# Altium schematic symbol library WL-SBCW.SchLib: 5 symbols
Pins are listed as number, name and electrical type; pins without a type are passive.

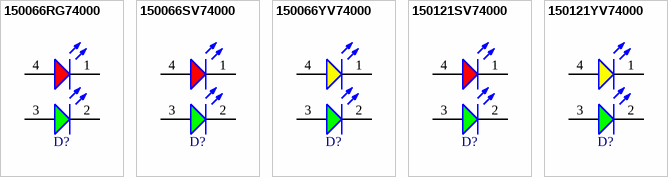
[diagram p0: symbols 150066RG74000 to 150121YV74000]

## 150066RG74000
designator D?, comment Red & Green, 130°  (value not drawn)
WL-SBCW SMT Bi-color Chip LED Waterclear, size 0606, Red & Green, 130°; Manufacturer Part Number: 150066RG74000; Manufacturer: Wurth Elektronik; Case/Size Code: 0606; Chip Technology: AlInGaP + InGaN; Dominant Wavelength (Green): 520nm; Dominant Wavelength (Red): 625nm; Forward Voltage (Green): 3.2V; Forward Voltage (Red): 2V; Luminous Intensity (Green): 560mcd; Luminous Intensity (Red): 300mcd; Peak Wavelength (Green): 515nm; Peak Wavelength (Red): 630nm; Category: Signal LEDs; Match Code: WL-SBCW; ComponentLink1Description: Website Link; ComponentLink1URL: https://www.we-online.com/redexpert/article/150066RG74000?ad; ComponentLink2Description: Datasheet Link; ComponentLink2URL: https://www.we-online.com/redexpert/spec/150066RG74000?ad; Mount: Surface Mount; Operating Temperature Max: 85°C; Operating Temperature Min: -40°C; Packaging: Tape and Reel; Length: 1.6mm; Width: 1.6mm; Height: 0.7mm; Emitting Color: Red & Green; Viewing Angle: 130°
footprint WL-SBCW_0606
simulation model 0606_150066RG74000
pins: 1 K, 2 K, 3 A, 4 A

## 150066SV74000
designator D?, comment Super Red & Bright Green, 130°  (value not drawn)
WL-SBCW SMT Bi-color Chip LED Waterclear, size 0606, Super Red & Bright Green, 130°; Manufacturer Part Number: 150066SV74000; Manufacturer: Wurth Elektronik; Case/Size Code: 0606; Chip Technology: AlInGaP; Dominant Wavelength (Bright Green): 570nm; Dominant Wavelength (Super Red): 630nm; Forward Voltage (Bright Green): 2V; Luminous Intensity (Bright Green): 30mcd; Luminous Intensity (Super Red): 55mcd; Peak Wavelength (Bright Green): 572nm; Peak Wavelength (Super Red): 645nm; Category: Signal LEDs; Match Code: WL-SBCW; ComponentLink1Description: Website Link; ComponentLink1URL: https://www.we-online.com/redexpert/article/150066SV74000?ad; ComponentLink2Description: Datasheet Link; ComponentLink2URL: https://www.we-online.com/redexpert/spec/150066SV74000?ad; Mount: Surface Mount; Operating Temperature Max: 85°C; Operating Temperature Min: -40°C; Packaging: Tape and Reel; Length: 1.6mm; Width: 1.6mm; Height: 0.7mm; Emitting Color: Super Red & Bright Green; Forward Voltage (Super Red): 2V; Viewing Angle: 130°
footprint WL-SBCW_0606
simulation model 0606_150066SV74000
pins: 1 K, 2 K, 3 A, 4 A

## 150066YV74000
designator D?, comment Yellow & Bright Green, 130°  (value not drawn)
WL-SBCW SMT Bi-color Chip LED Waterclear, size 0606, Yellow & Bright Green, 130°; Manufacturer Part Number: 150066YV74000; Manufacturer: Wurth Elektronik; Case/Size Code: 0606; Chip Technology: AlInGaP; Dominant Wavelength (Bright Green): 570nm; Dominant Wavelength (Yellow): 590nm; Forward Voltage (Bright Green): 2V; Luminous Intensity (Bright Green): 30mcd; Luminous Intensity (Yellow): 120mcd; Peak Wavelength (Bright Green): 572nm; Peak Wavelength (Yellow): 595nm; Category: Signal LEDs; Match Code: WL-SBCW; ComponentLink1Description: Website Link; ComponentLink1URL: https://www.we-online.com/redexpert/article/150066YV74000?ad; ComponentLink2Description: Datasheet Link; ComponentLink2URL: https://www.we-online.com/redexpert/spec/150066YV74000?ad; Mount: Surface Mount; Operating Temperature Max: 85°C; Operating Temperature Min: -40°C; Packaging: Tape and Reel; Length: 1.6mm; Width: 1.6mm; Height: 0.7mm; Emitting Color: Yellow & Bright Green; Forward Voltage (Yellow): 2V; Viewing Angle: 130°
footprint WL-SBCW_0606
simulation model 0606_150066YV74000
pins: 1 K, 2 K, 3 A, 4 A

## 150121SV74000
designator D?, comment Super Red & Bright Green, 130°  (value not drawn)
WL-SBCW SMT Bi-color Chip LED Waterclear, size 1210, Super Red & Bright Green, 130°; Manufacturer Part Number: 150121SV74000; Manufacturer: Wurth Elektronik; Case/Size Code: 1210; Chip Technology: AlInGaP; Dominant Wavelength (Bright Green): 570nm; Dominant Wavelength (Super Red): 630nm; Forward Voltage (Bright Green): 2V; Luminous Intensity (Bright Green): 30mcd; Luminous Intensity (Super Red): 55mcd; Peak Wavelength (Bright Green): 572nm; Peak Wavelength (Super Red): 645nm; Category: Signal LEDs; Match Code: WL-SBCW; ComponentLink1Description: Website Link; ComponentLink1URL: https://www.we-online.com/redexpert/article/150121SV74000?ad; ComponentLink2Description: Datasheet Link; ComponentLink2URL: https://www.we-online.com/redexpert/spec/150121SV74000?ad; Mount: Surface Mount; Operating Temperature Max: 85°C; Operating Temperature Min: -40°C; Packaging: Tape and Reel; Length: 3.2mm; Width: 2.7mm; Height: 0.7mm; Emitting Color: Super Red & Bright Green; Forward Voltage (Super Red): 2V; Viewing Angle: 130°
footprint WL-SBCW_1210
simulation model 1210_150121SV74000
pins: 1 K, 2 K, 3 A, 4 A

## 150121YV74000
designator D?, comment Yellow & Bright Green, 130°  (value not drawn)
WL-SBCW SMT Bi-color Chip LED Waterclear, size 1210, Yellow & Bright Green, 130°; Manufacturer Part Number: 150121YV74000; Manufacturer: Wurth Elektronik; Case/Size Code: 1210; Chip Technology: AlInGaP; Dominant Wavelength (Bright Green): 570nm; Dominant Wavelength (Yellow): 590nm; Forward Voltage (Bright Green): 2V; Luminous Intensity (Bright Green): 40mcd; Luminous Intensity (Yellow): 120mcd; Peak Wavelength (Bright Green): 572nm; Peak Wavelength (Yellow): 595nm; Category: Signal LEDs; Match Code: WL-SBCW; ComponentLink1Description: Website Link; ComponentLink1URL: https://www.we-online.com/redexpert/article/150121YV74000?ad; ComponentLink2Description: Datasheet Link; ComponentLink2URL: https://www.we-online.com/redexpert/spec/150121YV74000?ad; Mount: Surface Mount; Operating Temperature Max: 85°C; Operating Temperature Min: -40°C; Packaging: Tape and Reel; Length: 3.2mm; Width: 2.7mm; Height: 0.7mm; Emitting Color: Yellow & Bright Green; Forward Voltage (Yellow): 2V; Viewing Angle: 130°
footprint WL-SBCW_1210
simulation model 1210_150121YV74000
pins: 1 K, 2 K, 3 A, 4 A